# Altium schematic symbol library balun.Schlib: 1 symbol
Pins are listed as number, name and electrical type; pins without a type are passive.

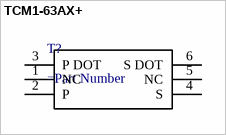
[diagram p0: symbol TCM1-63AX+]

## TCM1-63AX+
designator T?
pins: 1 NC, 2 P, 3 P DOT, 4 S, 5 NC, 6 S DOT